# EAGLE library part SA556N (library ST_Microelctronics_By_element14_Batch_1)
General-purpose dual bipolar timers
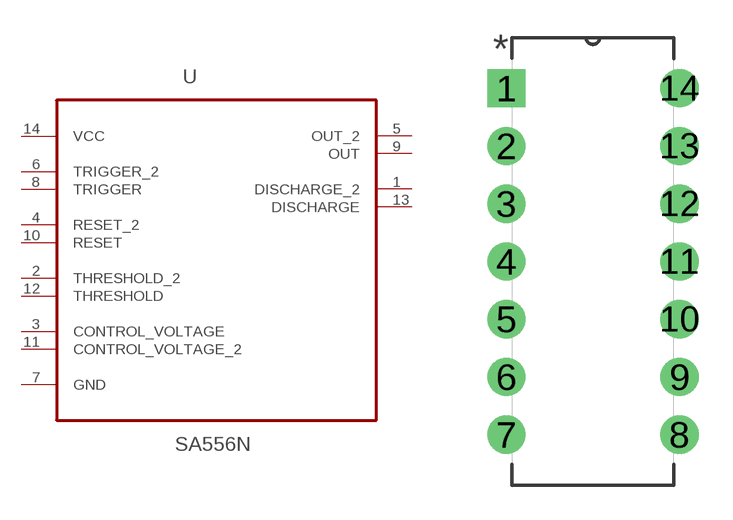
[diagram p291: symbol with the pads of DIP254P762X533-14; footprint DIP254P762X533-14]

Designator prefix U

## SA556N (MPN: SA556N; OC_FARNELL: 1282872; OC_NEWARK: 89K1502; PACKAGE: PDIP-14; SUPPLIER: STMICROELECTRONICS)  [DIP254P762X533-14]
1  DISCHARGE_2  out
2  THRESHOLD_2  in
3  CONTROL_VOLTAGE  in
4  RESET_2  in
5  OUT_2  out
6  TRIGGER_2  in
7  GND  pas
8  TRIGGER  in
9  OUT  out
10  RESET  in
11  CONTROL_VOLTAGE_2  in
12  THRESHOLD  in
13  DISCHARGE  out
14  VCC  pwr

## Footprint DIP254P762X533-14 (pad centres in mm)
drill 1.118 square: 1 -7.62,15.24
drill 1.118: 2 -7.62,12.7; 3 -7.62,10.16; 4 -7.62,7.62; 5 -7.62,5.08; 6 -7.62,2.54; 7 -7.62,0; 8 0,0; 9 0,2.54; 10 0,5.08; 11 0,7.62; 12 0,10.16; 13 0,12.7; 14 0,15.24